# Altium schematic symbol library PTH_70mil.SchLib: 1 symbol
Pins are listed as number, name and electrical type; pins without a type are passive.

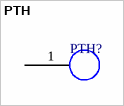
[diagram p0: symbol PTH]

## PTH
designator PTH?, comment Plated through hole  (value not drawn)
footprint PTH_70mil
pins: 1 PTH